# Altium integrated library TagConnect.IntLib: 3 symbols
Pins are listed as number, name and electrical type; pins without a type are passive.

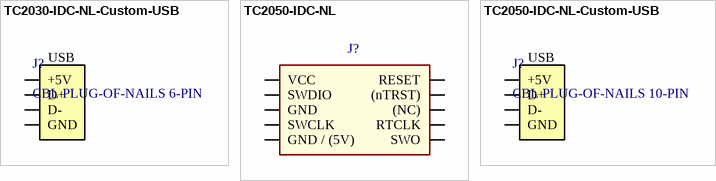
[diagram p0: symbols TC2030-IDC-NL-Custom-USB to TC2050-IDC-NL-Custom-USB]

## TC2030-IDC-NL-Custom-USB
designator J?, comment CBL PLUG-OF-NAILS 6-PIN  (no BOM)
Plug-Of-Nails™ Adapter Cable with custom USB pin designation; MPN: TC2030-IDC-NL
footprint TC2030-IDC-NL
footprint TC2030-IDC-NL - No 3D
pins: 1 +5V, 2 D+, 3 D-, 4 GND
text: USB

## TC2050-IDC-NL
designator J?, comment CBL PLUG-OF-NAILS 10-PIN  (value not drawn)  (no BOM)
Plug-Of-Nails™ Adapter Cable; MPN: TC2050-IDC-NL; Supplier 1: Digi-Key; Supplier Part Number 1: TC2050-IDC-NL-ND
footprint TC2050-IDC-NL
footprint TC2050-IDC-NL - No 3D
footprint TC2050-IDC-NL - No 3D - No holes
pins: 1 VCC, 2 SWDIO, 3 GND, 4 SWCLK, 5 GND / (5V), 6 SWO, 7 RTCLK, 8 (NC), 9 (nTRST), 10 RESET

## TC2050-IDC-NL-Custom-USB
designator J?, comment CBL PLUG-OF-NAILS 10-PIN  (no BOM)
Plug-Of-Nails™ Adapter Cable with custom USB pin designation; MPN: TC2030-IDC-NL
footprint TC2050-IDC-NL - No 3D
footprint TC2050-IDC-NL - No 3D - No holes
pins: 4 +5V, 5 D+, 6 D-, 7 GND
text: USB